# Altium footprint library connect.PcbLib: 7 footprints
Each footprint in its own frame and in the unit in brackets; x right, y up, seen from the top. Pads: shape width x height; smd on the part's side, far side on the other; paste and mask are expansions set on the pad; w line width, h text height; cw(c..) or ccw(c..) is an arc to the next point about the centre after c.
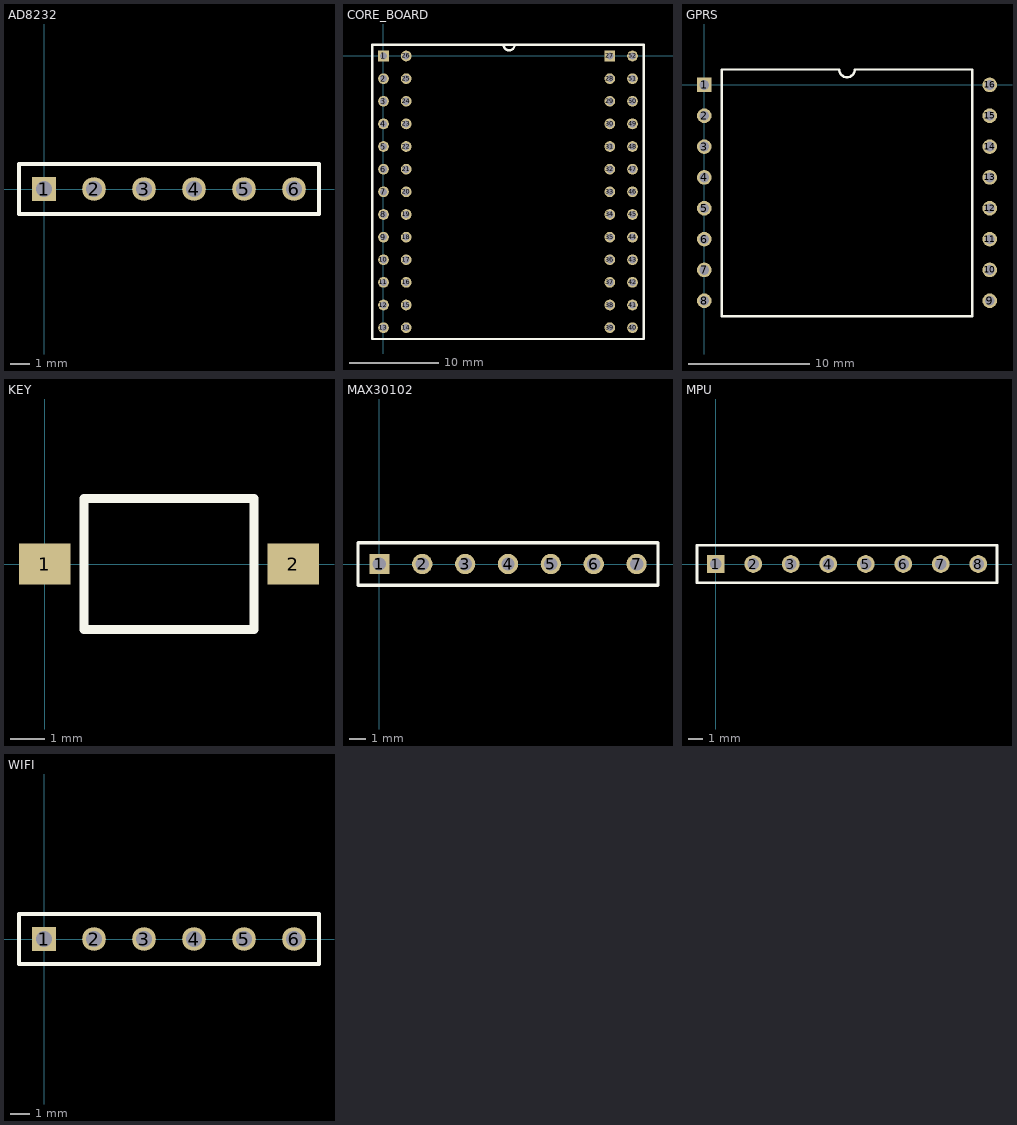
[diagram p0: the footprints below, top view; thin cyan lines are the x and y axes]

## AD8232 [mm] "Connector; Header; 6 Position"
pads (6):
  rect 1.2x1.2 hole 0.8: 1(0,0)
  round 1.2 hole 0.8: 2(2.54,0) 3(5.08,0) 4(7.62,0) 5(10.16,0) 6(12.7,0)
Top Overlay:
  lines w0.2: -1.27,-1.27 -1.27,1.27 13.97,1.27 13.97,-1.27 -1.27,-1.27

## CORE_BOARD [mm]
pads (52):
  rect 1.2x1.2 hole 0.8: 1(0,0) 27(25.4,0)
  round 1.2 hole 0.8: 2(0,-2.54) 3(0,-5.08) 4(0,-7.62) 5(0,-10.16) 6(0,-12.7) 7(0,-15.24) 8(0,-17.78) 9(0,-20.32) 10(0,-22.86) 11(0,-25.4) 12(0,-27.94) 13(0,-30.48) 14(2.54,-30.48) 15(2.54,-27.94) 16(2.54,-25.4) 17(2.54,-22.86) 18(2.54,-20.32) 19(2.54,-17.78) 20(2.54,-15.24) 21(2.54,-12.7) 22(2.54,-10.16) 23(2.54,-7.62) 24(2.54,-5.08) 25(2.54,-2.54) 26(2.54,0) 28(25.4,-2.54) 29(25.4,-5.08) 30(25.4,-7.62) 31(25.4,-10.16) 32(25.4,-12.7) 33(25.4,-15.24) 34(25.4,-17.78) 35(25.4,-20.32) 36(25.4,-22.86) 37(25.4,-25.4) 38(25.4,-27.94) 39(25.4,-30.48) 40(27.94,-30.48) 41(27.94,-27.94) 42(27.94,-25.4) 43(27.94,-22.86) 44(27.94,-20.32) 45(27.94,-17.78) 46(27.94,-15.24) 47(27.94,-12.7) 48(27.94,-10.16) 49(27.94,-7.62) 50(27.94,-5.08) 51(27.94,-2.54) 52(27.94,0)
Top Overlay:
  lines w0.254: 13.462,1.27 ccw(c14.097,1.27) 14.732,1.27 ; -1.27,-31.75 29.21,-31.75 29.21,1.27 -1.27,1.27 -1.27,-31.75

## GPRS [mm]
pads (16):
  rect 1.2x1.2 hole 0.8: 1(0,0)
  round 1.2 hole 0.8: 2(0,-2.54) 3(0,-5.08) 4(0,-7.62) 5(0,-10.16) 6(0,-12.7) 7(0,-15.24) 8(0,-17.78) 9(23.51,-17.78) 10(23.51,-15.24) 11(23.51,-12.7) 12(23.51,-10.16) 13(23.51,-7.62) 14(23.51,-5.08) 15(23.51,-2.54) 16(23.51,0)
Top Overlay:
  lines w0.2: 1.435,-19.05 1.435,1.27 11.12,1.27 ccw(c11.755,1.27) 12.39,1.27 22.075,1.27 22.075,-19.05 1.435,-19.05

## KEY [mm]
pads (2):
  rect 1.5x1.2 smd: 1(0,0) 2(7.239,0)
Top Overlay:
  lines w0.254: 1.143,-1.905 1.143,1.905 6.096,1.905 6.096,-1.905 1.143,-1.905

## MAX30102 [mm] "Connector; Header; 7 Position"
pads (7):
  rect 1.2x1.2 hole 0.8: 1(0,0)
  round 1.2 hole 0.8: 2(2.54,0) 3(5.08,0) 4(7.62,0) 5(10.16,0) 6(12.7,0) 7(15.24,0)
Top Overlay:
  lines w0.2: -1.27,-1.27 16.51,-1.27 16.51,1.27 -1.27,1.27 -1.27,-1.27

## MPU [mm] "Connector; Header; 8 Position"
pads (8):
  rect 1.2x1.2 hole 0.8: 1(0,0)
  round 1.2 hole 0.8: 2(2.54,0) 3(5.08,0) 4(7.62,0) 5(10.16,0) 6(12.7,0) 7(15.24,0) 8(17.78,0)
Top Overlay:
  lines w0.2: -1.27,-1.27 19.05,-1.27 19.05,1.27 -1.27,1.27 -1.27,-1.27

## WIFI [mm] "Connector; Header; 6 Position"
pads (6):
  rect 1.2x1.2 hole 0.8: 1(0,0)
  round 1.2 hole 0.8: 2(2.54,0) 3(5.08,0) 4(7.62,0) 5(10.16,0) 6(12.7,0)
Top Overlay:
  lines w0.2: -1.27,-1.27 -1.27,1.27 13.97,1.27 13.97,-1.27 -1.27,-1.27